# Altium schematic symbol library MCUEFR32BG13.SchLib: 4 symbols
Pins are listed as number, name and electrical type; pins without a type are passive.

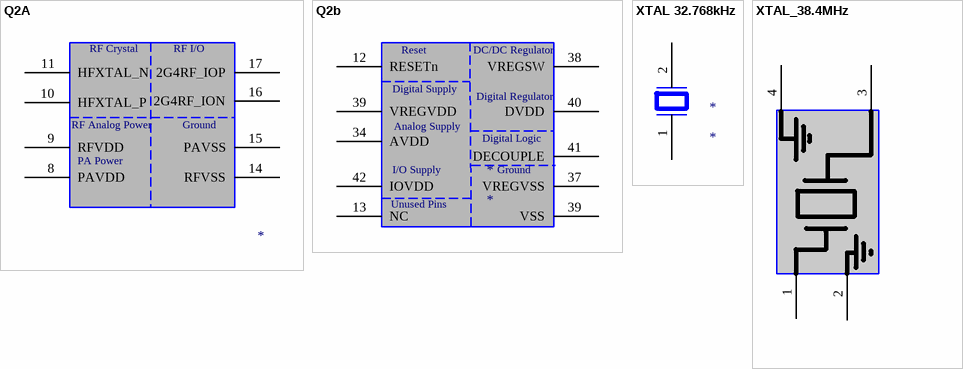
[diagram p0: symbols Q2A to XTAL_38.4MHz]

## Q2A
designator ?
pins: 8 PAVDD, 9 RFVDD, 10 HFXTAL_P, 11 HFXTAL_N, 14 RFVSS, 15 PAVSS, 16 2G4RF_ION, 17 2G4RF_IOP
text: RF Crystal; RF I/O; RF Analog Power; Ground; PA Power

## Q2b
designator *
pins: 12 RESETn, 13 NC, 34 AVDD, 37 VREGVSS, 38 VREGSW, 39 VREGVDD, 39 VSS, 40 DVDD, 41 DECOUPLE, 42 IOVDD
text: Reset; DC/DC Regulator; Digital Supply; Digital Regulator; Analog Supply; Digital Logic; I/O Supply; Ground; Unused Pins

## XTAL 32.768kHz
designator *
pins: 1, 2

## XTAL_38.4MHz
designator *
pins: 1, 2, 3, 4